# EAGLE library part MICROHAL_CONNECTOR_F_3 (library microhal-connector_v0.1)
Connector used in microhal development board.
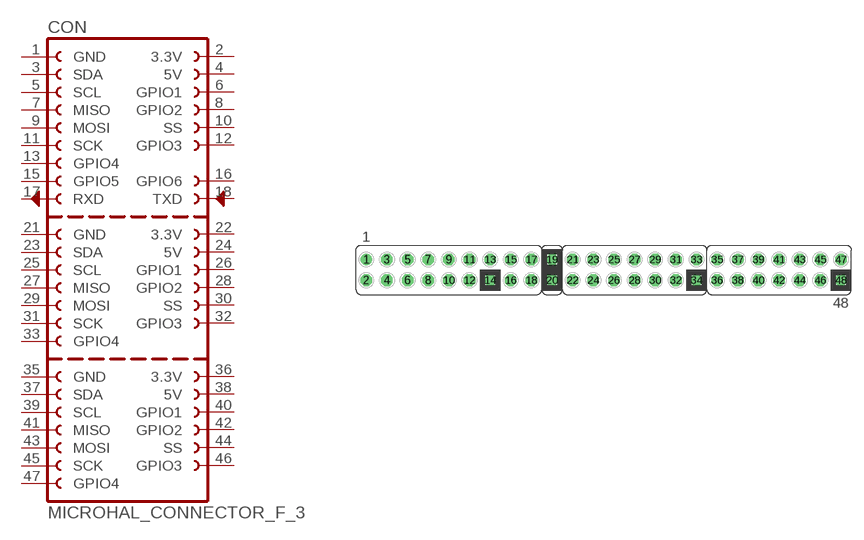
[diagram p0: symbol with the pads of MICROHAL_CONNECTOR_F_3; footprint MICROHAL_CONNECTOR_F_3]

Designator prefix CON

## MICROHAL_CONNECTOR_F_3  [MICROHAL_CONNECTOR_F_3]
1  GND  pwr
2  3.3V  pwr
3  SDA  pas
4  5V  pwr
5  SCL  pas
6  GPIO1
7  MISO  pas
8  GPIO2
9  MOSI
10  SS  pas
11  SCK
12  GPIO3
13  GPIO4
15  GPIO5
16  GPIO6
17  RXD  pas
18  TXD  pas
21  GND  pwr
22  3.3V  pwr
23  SDA  pas
24  5V  pwr
25  SCL  pas
26  GPIO1
27  MISO  pas
28  GPIO2
29  MOSI
30  SS  pas
31  SCK
32  GPIO3
33  GPIO4
35  GND  pwr
36  3.3V  pwr
37  SDA  pas
38  5V  pwr
39  SCL  pas
40  GPIO1
41  MISO  pas
42  GPIO2
43  MOSI
44  SS  pas
45  SCK
46  GPIO3
47  GPIO4

## Footprint MICROHAL_CONNECTOR_F_3 (pad centres in mm)
drill 0.914: 1 -33.02,1.27; 19 -10.16,1.27; 37 12.7,1.27
drill 0.914 octagon: 2 -33.02,-1.27; 3 -30.48,1.27; 4 -30.48,-1.27; 5 -27.94,1.27; 6 -27.94,-1.27; 7 -25.4,1.27; 8 -25.4,-1.27; 9 -22.86,1.27; 10 -22.86,-1.27; 11 -20.32,1.27; 12 -20.32,-1.27; 13 -17.78,1.27; 14 -17.78,-1.27; 15 -15.24,1.27; 16 -15.24,-1.27; 17 -12.7,1.27; 18 -12.7,-1.27; 20 -10.16,-1.27; 21 -7.62,1.27; 22 -7.62,-1.27; 23 -5.08,1.27; 24 -5.08,-1.27; 25 -2.54,1.27; 26 -2.54,-1.27; 27 0,1.27; 28 0,-1.27; 29 2.54,1.27; 30 2.54,-1.27; 31 5.08,1.27; 32 5.08,-1.27; 33 7.62,1.27; 34 7.62,-1.27; 35 10.16,1.27; 36 10.16,-1.27; 38 12.7,-1.27; 39 15.24,1.27; 40 15.24,-1.27; 41 17.78,1.27; 42 17.78,-1.27; 43 20.32,1.27; 44 20.32,-1.27; 45 22.86,1.27; 46 22.86,-1.27; 47 25.4,1.27; 48 25.4,-1.27